# Altium footprint library SIM808.PcbLib: 1 footprints
Each footprint in its own frame and in the unit in brackets; x right, y up, seen from the top. Pads: shape width x height; smd on the part's side, far side on the other; paste and mask are expansions set on the pad; w line width, h text height; cw(c..) or ccw(c..) is an arc to the next point about the centre after c.
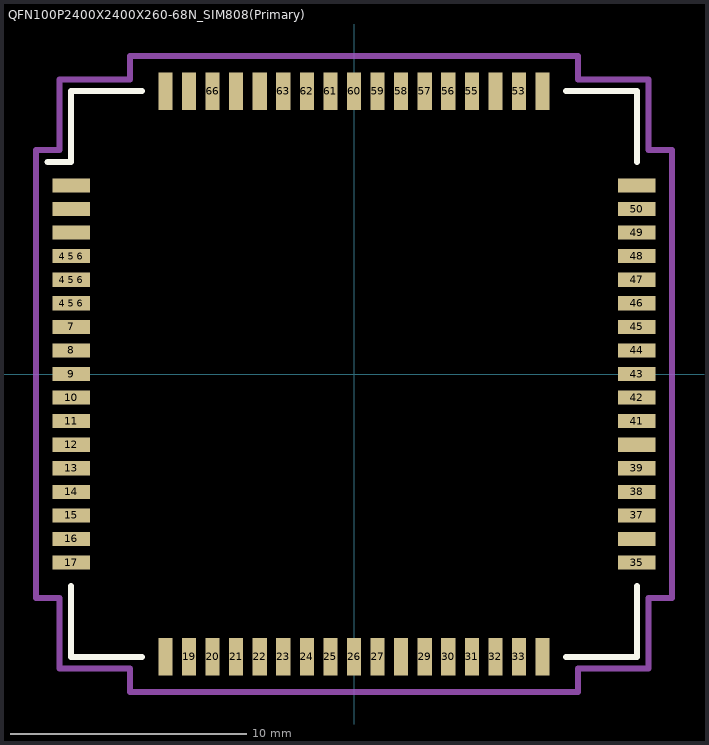
[diagram p0: the footprint, top view; thin cyan lines are the x and y axes]

## QFN100P2400X2400X260-68N_SIM808(Primary) [mm]
pads (68):
  rect 1.6x0.6 smd paste-25.4 mask-25.4: "1 2 3 18 28 34 36 40 51 52 54 64 65 67 68"(-12,6) "1 2 3 18 28 34 36 40 51 52 54 64 65 67 68"(-12,7) "1 2 3 18 28 34 36 40 51 52 54 64 65 67 68"(-12,8) "1 2 3 18 28 34 36 40 51 52 54 64 65 67 68"(12,-7) "1 2 3 18 28 34 36 40 51 52 54 64 65 67 68"(12,-3) "1 2 3 18 28 34 36 40 51 52 54 64 65 67 68"(12,8) "4 5 6"(-12,3) "4 5 6"(-12,4) "4 5 6"(-12,5) 7(-12,2) 8(-12,1) 9(-12,0) 10(-12,-1) 11(-12,-2) 12(-12,-3) 13(-12,-4) 14(-12,-5) 15(-12,-6) 16(-12,-7) 17(-12,-8) 35(12,-8) 37(12,-6) 38(12,-5) 39(12,-4) 41(12,-2) 42(12,-1) 43(12,0) 44(12,1) 45(12,2) 46(12,3) 47(12,4) 48(12,5) 49(12,6) 50(12,7)
  rect 0.6x1.6 smd paste-25.4 mask-25.4: "1 2 3 18 28 34 36 40 51 52 54 64 65 67 68"(-8,-12) "1 2 3 18 28 34 36 40 51 52 54 64 65 67 68"(-8,12) "1 2 3 18 28 34 36 40 51 52 54 64 65 67 68"(-7,12) "1 2 3 18 28 34 36 40 51 52 54 64 65 67 68"(-5,12) "1 2 3 18 28 34 36 40 51 52 54 64 65 67 68"(-4,12) "1 2 3 18 28 34 36 40 51 52 54 64 65 67 68"(2,-12) "1 2 3 18 28 34 36 40 51 52 54 64 65 67 68"(6,12) "1 2 3 18 28 34 36 40 51 52 54 64 65 67 68"(8,-12) "1 2 3 18 28 34 36 40 51 52 54 64 65 67 68"(8,12) 19(-7,-12) 20(-6,-12) 21(-5,-12) 22(-4,-12) 23(-3,-12) 24(-2,-12) 25(-1,-12) 26(0,-12) 27(1,-12) 29(3,-12) 30(4,-12) 31(5,-12) 32(6,-12) 33(7,-12) 53(7,12) 55(5,12) 56(4,12) 57(3,12) 58(2,12) 59(1,12) 60(0,12) 61(-1,12) 62(-2,12) 63(-3,12) 66(-6,12)
Top Overlay:
  lines w0.254: -13,9 -12,9 -12,12 -9,12 ; -12,-9 -12,-12 -9,-12 ; 9,-12 12,-12 12,-9 ; 9,12 12,12 12,9
Top Paste:
  drawing of 68 lines, arcs and shapes, not listed
Top Solder:
  drawing of 68 lines, arcs and shapes, not listed
Mechanical 1:
  lines w0.254: -13.5,-9.5 -12.5,-9.5 -12.5,-12.5 -9.5,-12.5 -9.5,-13.5 9.5,-13.5 9.5,-12.5 12.5,-12.5 12.5,-9.5 13.5,-9.5 13.5,9.5 12.5,9.5 12.5,12.5 9.5,12.5 9.5,13.5 -9.5,13.5 -9.5,12.5 -12.5,12.5 -12.5,9.5 -13.5,9.5 -13.5,-9.5